# EAGLE library part PIC18F4520-I_P (library SamacSys_Parts)
Micro,PIC,32K Fl,DIP40,PIC18F4520-I/P Microchip PIC18F4520-I/P, 8bit PIC Microcontroller, 40MHz, 32 kB, 256 B Flash, 40-Pin PDIP Source: Datasheet <https://datasheet.datasheetarchive.com/originals/distributors/Datasheets-DGA25/1725603.pdf>
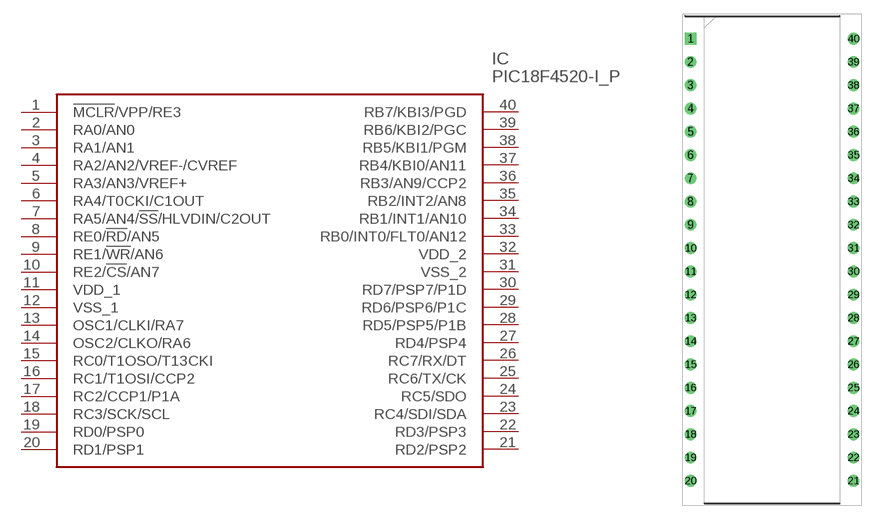
[diagram p2: symbol with the pads of DIP1778W58P254L5175H635Q40N; footprint DIP1778W58P254L5175H635Q40N]

Designator prefix IC

## PIC18F4520-I_P (DESCRIPTION: Micro,PIC,32K Fl,DIP40,PIC18F4520-I/P Microchip PIC18F4520-I/P, 8bit PIC Microcontroller, 40MHz, 32 kB, 256 B Flash, 40-Pin PDIP; HEIGHT: 6.35mm; MANUFACTURER_NAME: Microchip; MANUFACTURER_PART_NUMBER: PIC18F4520-I/P; MOUSER_PART_NUMBER: 579-PIC18F4520-I/P; MOUSER_PRICE-STOCK: https://www.mouser.co.uk/ProductDetail/Microchip-Technology/PIC18F4520-I-P?qs=sX%2FisSQq3c766Z6wYlOmBg%3D%3D)  [DIP1778W58P254L5175H635Q40N]
1  !MCLR!/VPP/RE3
2  RA0/AN0
3  RA1/AN1
4  RA2/AN2/VREF-/CVREF
5  RA3/AN3/VREF+
6  RA4/T0CKI/C1OUT
7  RA5/AN4/!SS!/HLVDIN/C2OUT
8  RE0/!RD!/AN5
9  RE1/!WR!/AN6
10  RE2/!CS!/AN7
11  VDD_1
12  VSS_1
13  OSC1/CLKI/RA7
14  OSC2/CLKO/RA6
15  RC0/T1OSO/T13CKI
16  RC1/T1OSI/CCP2
17  RC2/CCP1/P1A
18  RC3/SCK/SCL
19  RD0/PSP0
20  RD1/PSP1
21  RD2/PSP2
22  RD3/PSP3
23  RC4/SDI/SDA
24  RC5/SDO
25  RC6/TX/CK
26  RC7/RX/DT
27  RD4/PSP4
28  RD5/PSP5/P1B
29  RD6/PSP6/P1C
30  RD7/PSP7/P1D
31  VSS_2
32  VDD_2
33  RB0/INT0/FLT0/AN12
34  RB1/INT1/AN10
35  RB2/INT2/AN8
36  RB3/AN9/CCP2
37  RB4/KBI0/AN11
38  RB5/KBI1/PGM
39  RB6/KBI2/PGC
40  RB7/KBI3/PGD

## Footprint DIP1778W58P254L5175H635Q40N (pad centres in mm)
PDIP
drill 0.784 pad 1.184 square: 1 -8.89,24.13
drill 0.784 pad 1.184: 2 -8.89,21.59; 3 -8.89,19.05; 4 -8.89,16.51; 5 -8.89,13.97; 6 -8.89,11.43; 7 -8.89,8.89; 8 -8.89,6.35; 9 -8.89,3.81; 10 -8.89,1.27; 11 -8.89,-1.27; 12 -8.89,-3.81; 13 -8.89,-6.35; 14 -8.89,-8.89; 15 -8.89,-11.43; 16 -8.89,-13.97; 17 -8.89,-16.51; 18 -8.89,-19.05; 19 -8.89,-21.59; 20 -8.89,-24.13; 21 8.89,-24.13; 22 8.89,-21.59; 23 8.89,-19.05; 24 8.89,-16.51; 25 8.89,-13.97; 26 8.89,-11.43; 27 8.89,-8.89; 28 8.89,-6.35; 29 8.89,-3.81; 30 8.89,-1.27; 31 8.89,1.27; 32 8.89,3.81; 33 8.89,6.35; 34 8.89,8.89; 35 8.89,11.43; 36 8.89,13.97; 37 8.89,16.51; 38 8.89,19.05; 39 8.89,21.59; 40 8.89,24.13